# Altium footprint library PowerJack.PcbLib: 1 footprints
Each footprint in its own frame and in the unit in brackets; x right, y up, seen from the top. Pads: shape width x height; smd on the part's side, far side on the other; paste and mask are expansions set on the pad; w line width, h text height; cw(c..) or ccw(c..) is an arc to the next point about the centre after c.
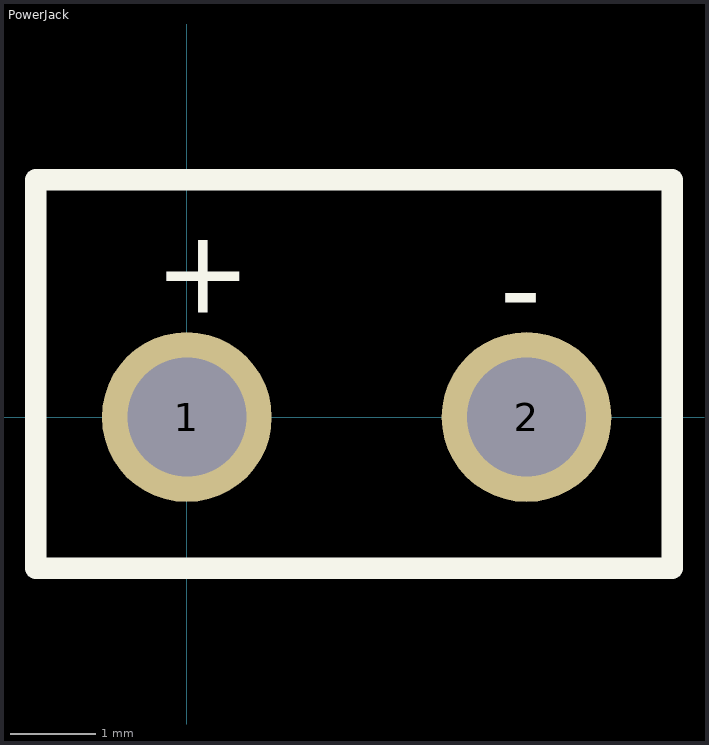
[diagram p0: the footprint, top view; thin cyan lines are the x and y axes]

## PowerJack [mm]
pads (2):
  round 2 hole 1.4: 1(0,0) 2(4,0)
Top Overlay:
  lines w0.254: -1.778,-1.778 5.715,-1.778 5.715,2.794 -1.778,2.794 -1.778,-1.778
  text "-" at 3.683,1.024 h1
  text "+" at -0.381,1.23 h1